# EAGLE library part 1365-38 (library con-leotronics)
DUAL ROW STRAIGHT HEADER 1364 SERIES. 1.27mm x 1.27mm. Without Fixing Post. SMT Source: http://www.leotronics.co.uk/Conexcon/Data%20Sheets/sec.%20A/1364ing.pdf
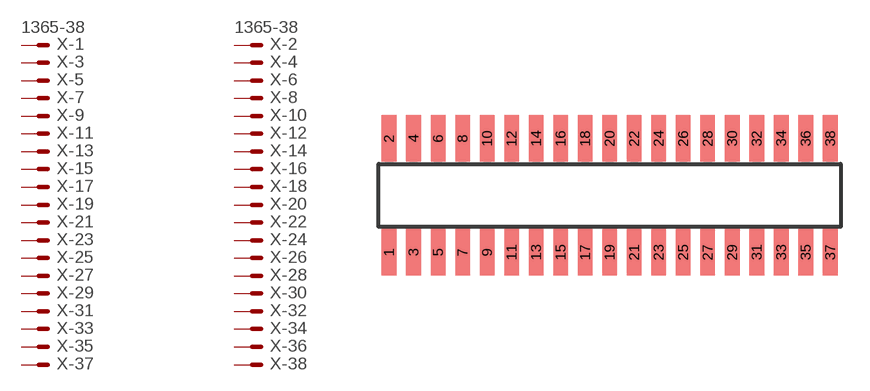
[diagram p62: symbol with the pads of 1365-38; footprint 1365-38]

Designator prefix X; gates -1=MVAL -2=MVAL -3=M -4=M -5=M -6=M -7=M -8=M -9=M -10=M -11=M -12=M -13=M -14=M -15=M -16=M -17=M -18=M -19=M -20=M -21=M -22=M -23=M -24=M -25=M -26=M -27=M -28=M -29=M -30=M -31=M -32=M -33=M -34=M -35=M -36=M -37=M -38=M

## 1365-38 (OC_FARNELL: unknown; OC_NEWARK: unknown)  [1365-38]
1  -1:S  pas
2  -2:S  pas
3  -3:S  pas
4  -4:S  pas
5  -5:S  pas
6  -6:S  pas
7  -7:S  pas
8  -8:S  pas
9  -9:S  pas
10  -10:S  pas
11  -11:S  pas
12  -12:S  pas
13  -13:S  pas
14  -14:S  pas
15  -15:S  pas
16  -16:S  pas
17  -17:S  pas
18  -18:S  pas
19  -19:S  pas
20  -20:S  pas
21  -21:S  pas
22  -22:S  pas
23  -23:S  pas
24  -24:S  pas
25  -25:S  pas
26  -26:S  pas
27  -27:S  pas
28  -28:S  pas
29  -29:S  pas
30  -30:S  pas
31  -31:S  pas
32  -32:S  pas
33  -33:S  pas
34  -34:S  pas
35  -35:S  pas
36  -36:S  pas
37  -37:S  pas
38  -38:S  pas

## Footprint 1365-38 (pad centres in mm)
DUAL ROW STRAIGHT HEADER 1364 SERIES. 1.27mm x 1.27mm. Without Fixing Post. SMT Source: http://www.leotronics.co.uk/Conexcon/Data%20Sheets/sec.%20A/1364ing.pdf
smd 0.76 x 2.4: 1 -11.43,-2.95; 2 -11.43,2.95; 3 -10.16,-2.95; 4 -10.16,2.95; 5 -8.89,-2.95; 6 -8.89,2.95; 7 -7.62,-2.95; 8 -7.62,2.95; 9 -6.35,-2.95; 10 -6.35,2.95; 11 -5.08,-2.95; 12 -5.08,2.95; 13 -3.81,-2.95; 14 -3.81,2.95; 15 -2.54,-2.95; 16 -2.54,2.95; 17 -1.27,-2.95; 18 -1.27,2.95; 19 0,-2.95; 20 0,2.95; 21 1.27,-2.95; 22 1.27,2.95; 23 2.54,-2.95; 24 2.54,2.95; 25 3.81,-2.95; 26 3.81,2.95; 27 5.08,-2.95; 28 5.08,2.95; 29 6.35,-2.95; 30 6.35,2.95; 31 7.62,-2.95; 32 7.62,2.95; 33 8.89,-2.95; 34 8.89,2.95; 35 10.16,-2.95; 36 10.16,2.95; 37 11.43,-2.95; 38 11.43,2.95